# EAGLE library part AS-ITM-00338 (library tinycircuits)
SENSOR LASER DISTANCE TOF 2M
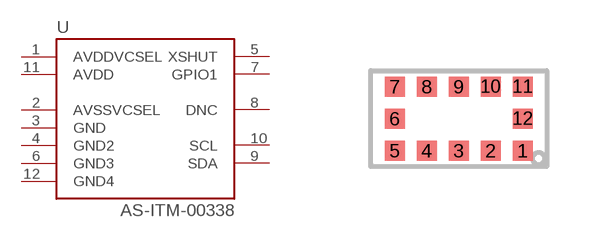
[diagram p133: symbol with the pads of VL53L0X; footprint VL53L0X]

Designator prefix U

## AS-ITM-00338 (PARTNO: AS-ITM-00338; VALUE: VL53L0X)  [VL53L0X]
1  AVDDVCSEL
2  AVSSVCSEL
3  GND
4  GND2
5  XSHUT
6  GND3
7  GPIO1
8  DNC
9  SDA
10  SCL
11  AVDD
12  GND4

## Footprint VL53L0X (pad centres in mm)
smd 0.5 x 0.5: 1 1.6,-0.8; 2 0.8,-0.8; 3 0,-0.8; 4 -0.8,-0.8; 5 -1.6,-0.8; 6 -1.6,0; 7 -1.6,0.8; 8 -0.8,0.8; 9 0,0.8; 10 0.8,0.8; 11 1.6,0.8; 12 1.6,0